# Altium footprint library Wurth_Elektronik_Passive_rev16a.PCBLIB: 810 footprints (part 35 of 51)
Each footprint in its own frame and in the unit in brackets; x right, y up, seen from the top. Pads: shape width x height; smd on the part's side, far side on the other; paste and mask are expansions set on the pad; w line width, h text height; cw(c..) or ccw(c..) is an arc to the next point about the centre after c.
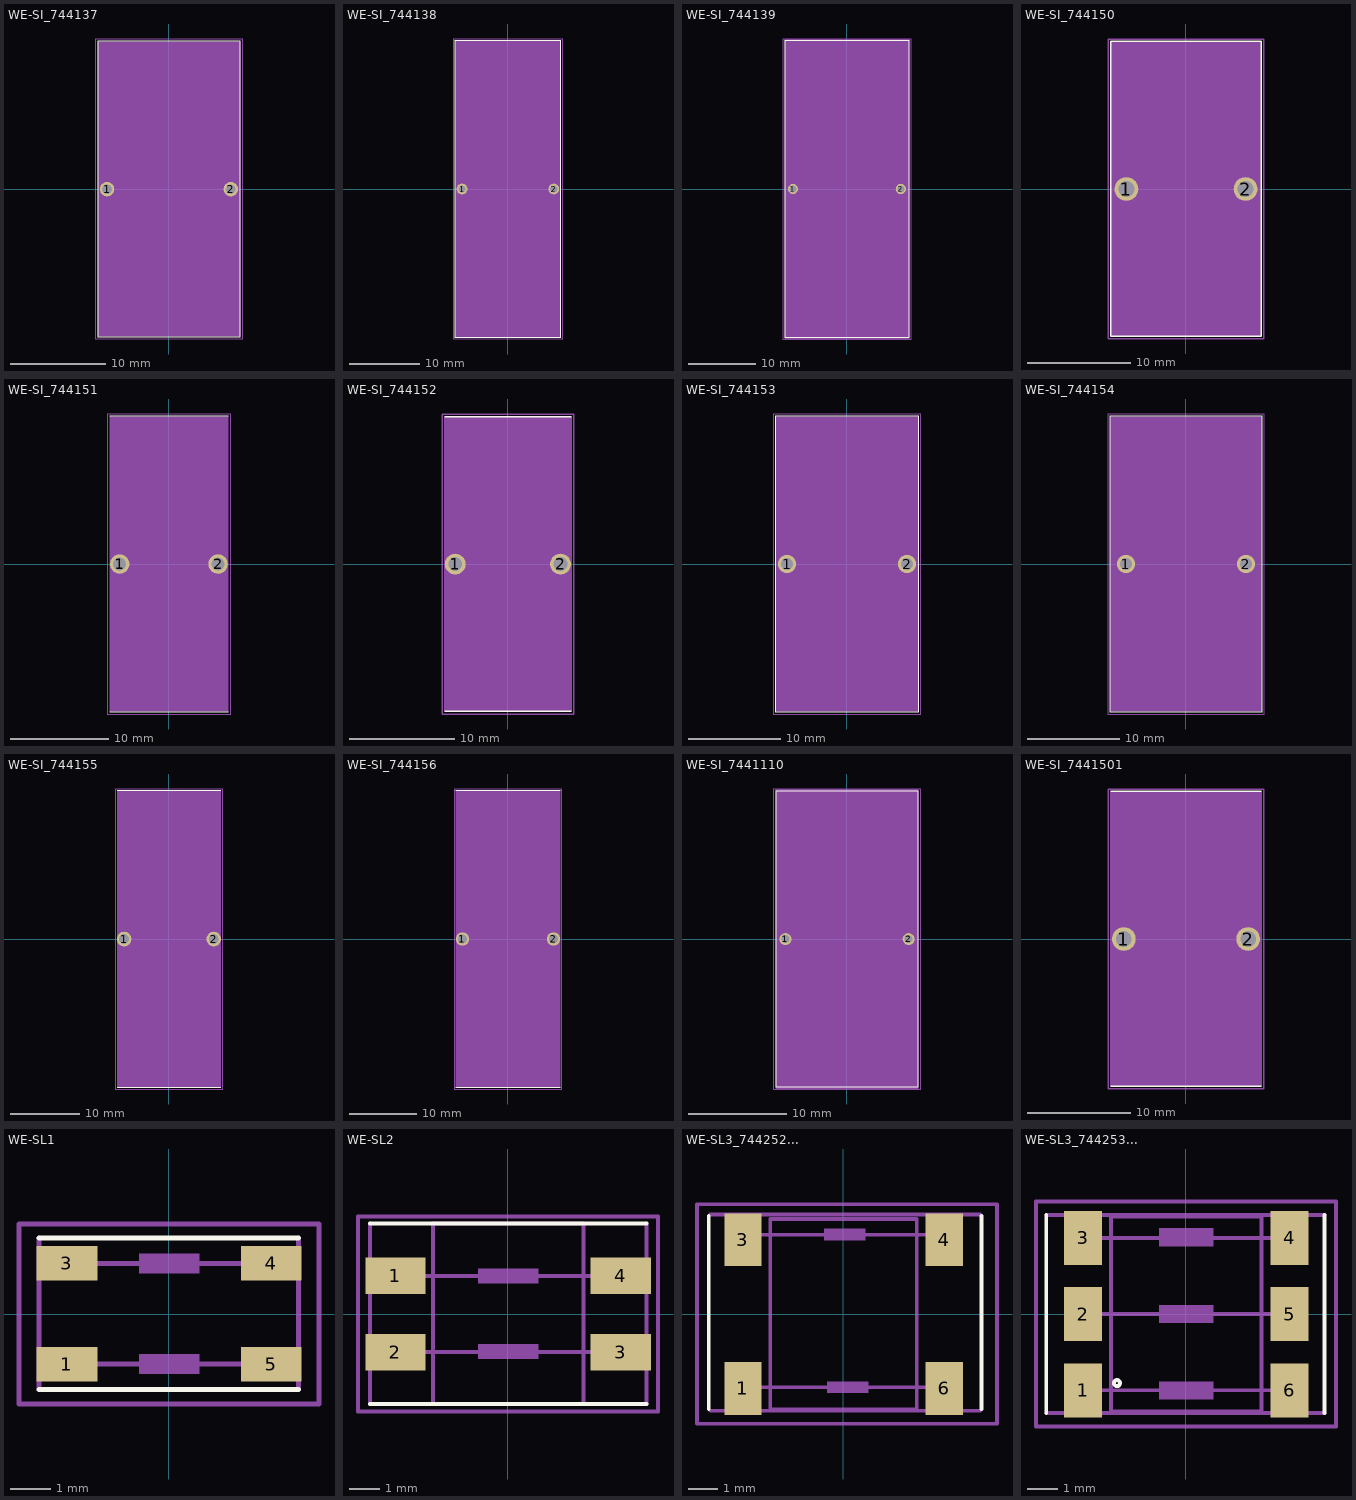
[diagram p34: the footprints below, top view; thin cyan lines are the x and y axes]

## WE-SI_744137 [mil]
pads (2):
  round 60 hole 40: 1(-255.91,0) 2(256,0)
Top Overlay:
  lines w5: -295.28,-610.24 -295.28,611 296,611 296,-610.24 -295.28,-610.24
Mechanical 2:
  text ">NAME" at -300,650 h77.5
Mechanical 4:
  text ">VALUE" at -300,-700 h77.5
Mechanical 10:
  rectangle: -295.28,-610.24 296,611
Mechanical 27:
  lines w5: -305.12,-620.08 -305.12,621 306,621 306,-620.08 -305.12,-620.08

## WE-SI_744138 [mil]
pads (2):
  round 60 hole 40: 1(-255.91,0) 2(256,0)
Top Overlay:
  lines w5: -295.28,-826.77 -295.28,827 296,827 296,-826.77 -295.28,-826.77
Mechanical 2:
  text ">NAME" at -300,900 h77.5
  text ">VALUE" at -300,-950 h77.5
Mechanical 10:
  rectangle: -295.28,-826.77 296,827
Mechanical 27:
  lines w5: -305.12,-836.61 -305.12,837 306,837 306,-836.61 -305.12,-836.61

## WE-SI_744139 [mil]
pads (2):
  round 60 hole 40: 1(-314.96,0) 2(315,0)
Top Overlay:
  lines w5: -364.17,-866.14 -364.17,867 365,867 365,-866.14 -364.17,-866.14
Mechanical 2:
  text ">NAME" at -300,900 h77.5
  text ">VALUE" at -300,-950 h77.5
Mechanical 10:
  rectangle: -364.17,-875.98 365,876
Mechanical 27:
  lines w5: -374.02,-875.98 -374.02,876 375,876 375,-875.98 -374.02,-875.98

## WE-SI_744150 [mil]
pads (2):
  round 90 hole 60: 1(-226.38,0) 2(227,0)
Top Overlay:
  lines w5: -285.43,-561.02 -285.43,562 286,562 286,-561.02 -285.43,-561.02
Mechanical 2:
  text ">NAME" at -300,600 h77.5
Mechanical 4:
  text ">VALUE" at -300,-650 h77.5
Mechanical 10:
  rectangle: -285.43,-561.02 286,562
Mechanical 27:
  lines w5: -295.28,-570.87 -295.28,571 296,571 296,-570.87 -295.28,-570.87

## WE-SI_744151 [mil]
pads (2):
  round 78 hole 52: 1(-196.85,0) 2(197,0)
Top Overlay:
  lines w5: -236.22,-590.55 237,-590.55 ; -236.22,591 237,591
Mechanical 2:
  text ">NAME" at -250,650 h77.5
Mechanical 4:
  text ">VALUE" at -250,-700 h77.5
Mechanical 10:
  rectangle: -236.22,-590.55 237,591
Mechanical 16:
  lines w5: -236.22,-590.55 -236.22,591 ; 237,-590.55 237,591
Mechanical 27:
  lines w5: -246.06,-600.39 -246.06,601 247,601 247,-600.39 -246.06,-600.39

## WE-SI_744152 [mil]
pads (2):
  round 78 hole 52: 1(-196.85,0) 2(197,0)
Top Overlay:
  lines w5: -236.22,-551.18 237,-551.18 ; -236.22,552 237,552
Mechanical 2:
  text ">NAME" at -250,600 h77.5
Mechanical 4:
  text ">VALUE" at -250,-650 h77.5
Mechanical 10:
  rectangle: -236.22,-551.18 237,552
Mechanical 16:
  lines w5: -236.22,-551.18 -236.22,552 ; 237,-551.18 237,552
Mechanical 27:
  lines w5: -246.06,-561.02 -246.06,562 247,562 247,-561.02 -246.06,-561.02

## WE-SI_744153 [mil]
pads (2):
  round 78 hole 52: 1(-255.91,0) 2(256,0)
Top Overlay:
  lines w5: -305.12,-629.92 -305.12,630 306,630 306,-629.92 -305.12,-629.92
Mechanical 2:
  text ">NAME" at -300,700 h77.5
Mechanical 4:
  text ">VALUE" at -300,-750 h77.5
Mechanical 10:
  rectangle: -305.12,-629.92 306,630
Mechanical 27:
  lines w5: -314.96,-639.76 -314.96,640 315,640 315,-639.76 -314.96,-639.76

## WE-SI_744154 [mil]
pads (2):
  round 78 hole 52: 1(-255.91,0) 2(256,0)
Top Overlay:
  lines w5: -324.8,-629.92 -324.8,630 325,630 325,-629.92 -324.8,-629.92
Mechanical 2:
  text ">NAME" at -300,700 h77.5
Mechanical 4:
  text ">VALUE" at -300,-750 h77.5
Mechanical 10:
  rectangle: -324.8,-629.92 325,630
Mechanical 27:
  lines w5: -334.65,-639.76 -334.65,640 335,640 335,-639.76 -334.65,-639.76

## WE-SI_744155 [mil]
pads (2):
  round 84 hole 56: 1(-255.91,0) 2(256,0)
Top Overlay:
  lines w5: -295.28,-846.46 296,-846.46 ; -295.28,847 296,847
Mechanical 2:
  text ">NAME" at -350,900 h77.5
Mechanical 4:
  text ">VALUE" at -300,-950 h77.5
Mechanical 10:
  rectangle: -295.28,-846.46 296,847
Mechanical 16:
  lines w5: -295.28,-846.46 -295.28,847 ; 296,-846.46 296,847
Mechanical 27:
  lines w5: -305.12,-856.3 -305.12,857 306,857 306,-856.3 -305.12,-856.3

## WE-SI_744156 [mil]
pads (2):
  round 78 hole 52: 1(-265.75,0) 2(266,0)
Top Overlay:
  lines w5: -305.12,-866.14 306,-866.14 ; -305.12,867 306,867
Mechanical 2:
  text ">NAME" at -300,950 h77.5
Mechanical 4:
  text ">VALUE" at -300,-950 h77.5
Mechanical 10:
  rectangle: -305.12,-866.14 306,867
Mechanical 16:
  lines w5: -305.12,-866.14 -305.12,867 ; 306,-866.14 306,867
Mechanical 27:
  lines w5: -314.96,-875.98 -314.96,876 315,876 315,-875.98 -314.96,-875.98

## WE-SI_7441110 [mil]
pads (2):
  round 48 hole 32: 1(-246.06,0) 2(247,0)
Top Overlay:
  lines w5: -285.43,-590.55 -285.43,591 286,591 286,-590.55 -285.43,-590.55
Mechanical 2:
  text ">NAME" at -300,650 h77.5
  text ">VALUE" at -300,-700 h77.5
Mechanical 10:
  rectangle: -285.43,-600.39 286,601
Mechanical 27:
  lines w5: -295.28,-600.39 -295.28,601 296,601 296,-600.39 -295.28,-600.39

## WE-SI_7441501 [mil]
pads (2):
  round 90 hole 60: 1(-236.22,0) 2(237,0)
Top Overlay:
  lines w5: -285.43,-561.02 286,-561.02 ; -285.43,562 286,562
Mechanical 2:
  text ">NAME" at -300,600 h77.5
Mechanical 4:
  text ">VALUE" at -300,-650 h77.5
Mechanical 10:
  rectangle: -285.43,-561.02 286,562
Mechanical 16:
  lines w5: -285.43,-561.02 -285.43,562 ; 286,-561.02 286,562
Mechanical 27:
  lines w5: -295.28,-570.87 -295.28,571 296,571 296,-570.87 -295.28,-570.87

## WE-SL1 [mil]
pads (4):
  rect 60x34 smd: 1(-100.39,-49.21) 3(-100.39,50) 4(101,50) 5(101,-49.21)
Top Overlay:
  lines w5: -127.95,-74.02 128,-74.02 ; -127.95,75 128,75
Mechanical 2:
  text ">NAME" at -100,100 h77.5
Mechanical 4:
  text ">VALUE" at -100,-150 h77.5
Mechanical 16:
  rectangle: -29.53,40 30,60
  rectangle: -29.53,-59.06 30,-39.37
  lines w5: -127.95,-74.02 -127.95,75 ; -100.39,-49.21 101,-49.21 ; -100.39,50 101,50 ; 128,-74.02 128,75
Mechanical 27:
  lines w5: -147.64,-88.58 148,-88.58 148,89 -147.64,89 -147.64,-88.58

## WE-SL2 [mil]
pads (4):
  rect 79x48 smd: 1(-147.64,50) 2(-147.64,-50) 3(148,-50) 4(148,50)
Top Overlay:
  lines w5: -181.1,-118.11 182,-118.11 ; -181.1,119 182,119
Mechanical 2:
  text ">NAME" at 150,200 h77.5
Mechanical 4:
  text ">VALUE" at 150,-150 h77.5
Mechanical 10:
  lines w5: -98.43,-118.11 -98.43,119 99,119 99,-118.11 -98.43,-118.11
Mechanical 16:
  region: 40,60 -39.37,60 -39.37,40 40,40
  region: 40,-39.37 -39.37,-39.37 -39.37,-59.06 40,-59.06
  lines w5: -181.1,-118.11 -181.1,119 ; -150,-50 150,-50 ; -150,50 150,50 ; 182,-118.11 182,119
Mechanical 27:
  lines w5: -196.85,-127.95 197,-127.95 197,128 -196.85,128 -196.85,-127.95

## WE-SL3_744252... [mil]
pads (4):
  rect 50x71 smd: 1(-135.04,-100) 3(-135.04,100) 4(136,100) 6(136,-100)
Top Overlay:
  lines w5: -181.1,-127.95 -181.1,132 ; 186,-127.95 186,132
Mechanical 2:
  text ">NAME" at -125.98,158 h77.5
Mechanical 4:
  text ">VALUE" at -137.8,-200.79 h77.5
Mechanical 10:
  lines w5: -98.43,-127.95 99,-127.95 99,128 -98.43,128 -98.43,-127.95
Mechanical 16:
  rectangle: -25.59,99 30,115
  rectangle: -21.65,-106.3 34,-90.55
  lines w5: -179.13,-129.92 184,-129.92 ; -179.13,134 184,134 ; -141.73,107 142,107 ; -137.8,-98.43 146,-98.43
Mechanical 27:
  lines w5: -196.85,-147.64 207,-147.64 207,148 -196.85,148 -196.85,-147.64

## WE-SL3_744253... [mil]
pads (6):
  rect 50x71 smd: 1(-135.04,-100) 2(-135.04,0) 3(-135.04,100) 4(136,100) 5(136,0) 6(136,-100)
Top Overlay:
  circle w5: c-90.55,-90.55 r4
  lines w5: -183.46,-129.92 -183.46,130 ; 182,-129.92 182,130
Mechanical 2:
  text ">NAME" at -150,150 h77.5
Mechanical 4:
  text ">VALUE" at -150,-200 h77.5
Mechanical 10:
  lines w5: -98.43,-127.95 99,-127.95 99,128 -98.43,128 -98.43,-127.95
Mechanical 16:
  rectangle: -35.43,-11.81 36,12
  rectangle: -35.43,-112.2 36,-88.58
  rectangle: -35.43,89 36,113
  lines w5: -183.46,-129.92 182,-129.92 ; -183.46,130 182,130 ; -135.83,-100 136,-100 ; -135.83,0 136,0 ; -135.43,100 136,100
Mechanical 27:
  lines w5: -196.85,-147.64 197,-147.64 197,148 -196.85,148 -196.85,-147.64